# Altium schematic symbol library J-TSW-102-07-S-S.Schlib: 1 symbol
Pins are listed as number, name and electrical type; pins without a type are passive.

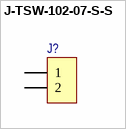
[diagram p0: symbol J-TSW-102-07-S-S]

## J-TSW-102-07-S-S
designator J?
pins: 1, 2